# Altium schematic symbol library 1N4148W-13-F.SchLib: 1 symbol
Pins are listed as number, name and electrical type; pins without a type are passive.

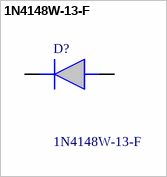
[diagram p0: symbol 1N4148W-13-F]

## 1N4148W-13-F
designator D?
Diode Switching 100V 0.15A 2Pin SOD123 Diodes Inc 1N4148W-13-F Switching Diode, 300mA 100V, 2-Pin SOD-123; Manufacturer_Name: Diodes Incorporated; Geometry.Height: 1.45mm; Mouser Part Number: 621-1N4148W-13-F; Mouser Price/Stock: https://www.mouser.co.uk/ProductDetail/Diodes-Incorporated/1N4148W-13-F?qs=rGAXPo9uwV24ebUy2vYvsA%3D%3D; Manufacturer_Part_Number: 1N4148W-13-F; Datasheet Link: https://www.diodes.com//assets/Datasheets/BAV16W_1N4148W.pdf
footprint SOD3716X145N
pins: 1 K, 2 A